# Altium footprint library footprints.PcbLib: 68 footprints (part 5 of 5)
Each footprint in its own frame and in the unit in brackets; x right, y up, seen from the top. Pads: shape width x height; smd on the part's side, far side on the other; paste and mask are expansions set on the pad; w line width, h text height; cw(c..) or ccw(c..) is an arc to the next point about the centre after c.
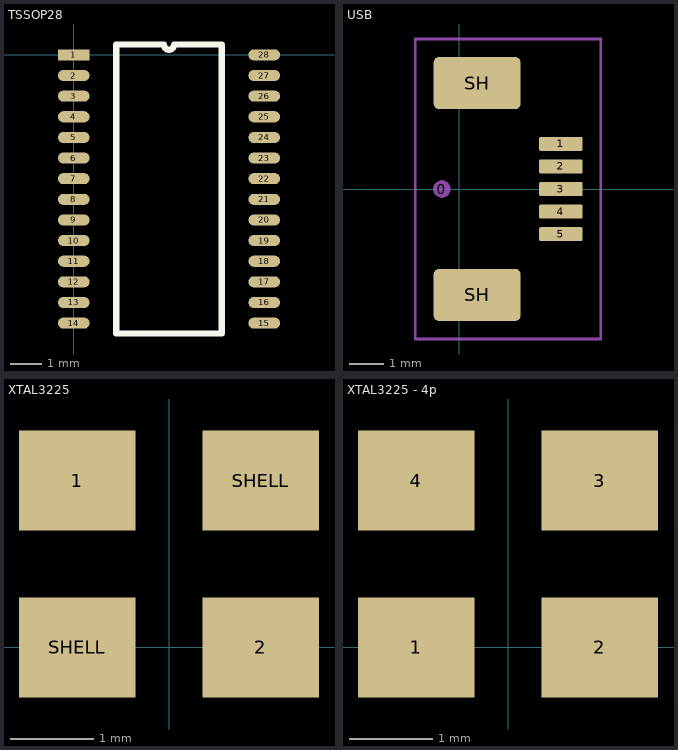
[diagram p4: the footprints below, top view; thin cyan lines are the x and y axes]

## TSSOP28 [mm]
pads (28):
  rect 1x0.35 smd: 1(0,0)
  oval 1x0.35 smd: 2(0,-0.65) 3(0,-1.3) 4(0,-1.95) 5(0,-2.6) 6(0,-3.25) 7(0,-3.9) 8(0,-4.55) 9(0,-5.2) 10(0,-5.85) 11(0,-6.5) 12(0,-7.15) 13(0,-7.8) 14(0,-8.45) 15(6,-8.45) 16(6,-7.8) 17(6,-7.15) 18(6,-6.5) 19(6,-5.85) 20(6,-5.2) 21(6,-4.55) 22(6,-3.9) 23(6,-3.25) 24(6,-2.6) 25(6,-1.95) 26(6,-1.3) 27(6,-0.65) 28(6,0)
Top Overlay:
  lines w0.2: 1.335,-8.775 4.665,-8.775 4.665,0.325 3.162,0.325 cw(c3,0.325) 2.838,0.325 1.335,0.325 1.335,-8.775

## USB [mm]
height 1.2
pads (8):
  round 0.508 on Mech15: 0(-0.508,0)
  rrect20% 1.25x0.4 smd: 1(2.919,1.3) 2(2.919,0.65) 3(2.919,0) 4(2.919,-0.65) 5(2.919,-1.3)
  rrect20% 2.5x1.5 smd: SH(0.508,-3.048) SH(0.508,3.048)
Top Solder:
  rectangle: 2.286,-1.27 3.556,1.27
Mechanical 15:
  lines w0.076: -1.27,-4.318 -1.27,4.318 4.064,4.318 4.064,-4.318 -1.27,-4.318

## XTAL3225 [mm]
pads (4):
  rect 1.4x1.2 smd: 1(-1.1,2) 2(1.1,0) SHELL(-1.1,0) SHELL(1.1,2)

## XTAL3225 - 4p [mm]
pads (4):
  rect 1.4x1.2 smd: 1(-1.1,0) 2(1.1,0) 3(1.1,2) 4(-1.1,2)